# EAGLE library part OPA4350EA_250 (library OPA4350EA_250)
Texas Instruments OPA4350EA/250, Quad Op Amp, 38MHz CMOS, Rail to Rail, 3 V, 5 V, 16-Pin SSOP Source: Datasheet <http://www.ti.com/lit/gpn/opa4350>
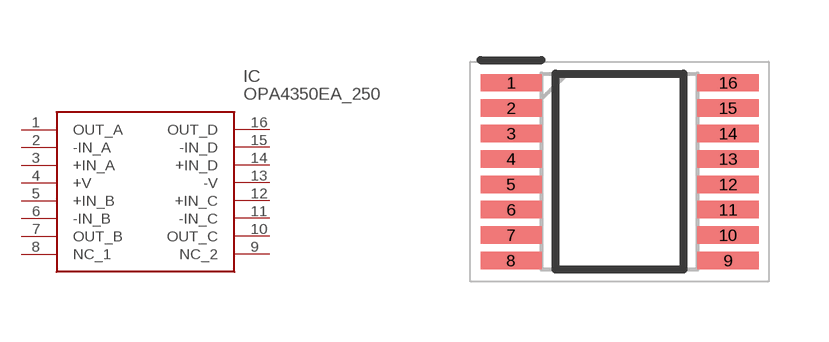
[diagram p0: symbol with the pads of SOP64P600X175-16N; footprint SOP64P600X175-16N]

Designator prefix IC

## OPA4350EA_250 (Description: Texas Instruments OPA4350EA/250, Quad Op Amp, 38MHz CMOS, Rail to Rail, 3 V, 5 V, 16-Pin SSOP; Height: 1.75mm; Manufacturer_Name: Texas Instruments; Manufacturer_Part_Number: OPA4350EA/250; Mouser_Part_Number: 595-OPA4350EA/250; Mouser_Price-Stock: https://www.mouser.co.uk/ProductDetail/Texas-Instruments/OPA4350EA-250?qs=wgAEGBTxy7lb0jb8rTnMIw%3D%3D)  [SOP64P600X175-16N]
1  OUT_A
2  -IN_A
3  +IN_A
4  +V
5  +IN_B
6  -IN_B
7  OUT_B
8  NC_1
9  NC_2
10  OUT_C
11  -IN_C
12  +IN_C
13  -V
14  +IN_D
15  -IN_D
16  OUT_D

## Footprint SOP64P600X175-16N (pad centres in mm)
DBQ0016A
smd 1.528 x 0.435: 1 -2.711,2.222; 2 -2.711,1.588; 3 -2.711,0.952; 4 -2.711,0.318; 5 -2.711,-0.318; 6 -2.711,-0.952; 7 -2.711,-1.588; 8 -2.711,-2.222; 9 2.711,-2.222; 10 2.711,-1.588; 11 2.711,-0.952; 12 2.711,-0.318; 13 2.711,0.318; 14 2.711,0.952; 15 2.711,1.588; 16 2.711,2.222